# EAGLE library part IC_PCF8563 (library dp_devices)
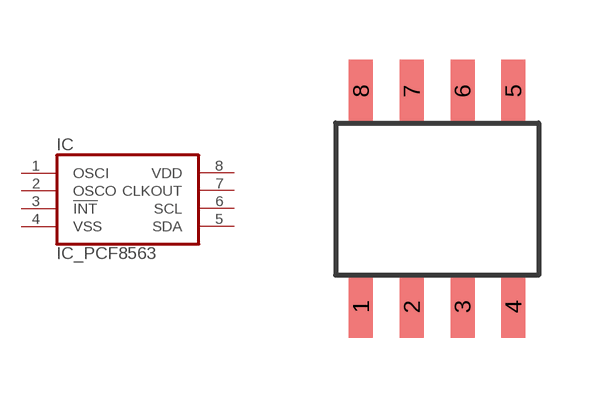
[diagram p57: symbol with the pads of SO-8; footprint SO-8]

Designator prefix IC

## IC_PCF8563  [SO-8]
1  OSCI
2  OSCO
3  !INT
4  VSS
5  SDA
6  SCL
7  CLKOUT
8  VDD

## Footprint SO-8 (pad centres in mm)
smd 0.6 x 1.55: 1 -1.905,-2.69; 2 -0.635,-2.69; 3 0.635,-2.69; 4 1.905,-2.69; 5 1.905,2.71; 6 0.635,2.71; 7 -0.635,2.71; 8 -1.905,2.71